# Altium schematic symbol library Cirk.SCHLIB: 2 symbols
Pins are listed as number, name and electrical type; pins without a type are passive.

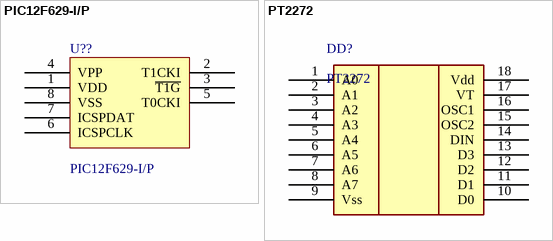
[diagram p0: symbols PIC12F629-I/P to PT2272]

## PIC12F629-I/P
designator U??
FLASH-Based 8-Bit CMOS Microcontroller, 8-Pin PDIP, Industrial Temperature; Note: Refer to data sheet (DS41190F) for details of supply voltage range under different conditions.; Published: 11-Oct-2004; LatestRevisionDate: 02-Dec-2009; LatestRevisionNote: Updated to datasheet revision revF, Sep-2009.; DatasheetVersion: revF, Sep-2009; PackageVersion: revBB, Aug-2009; PackageReference: PDIP300-P8; Publisher: Altium Limited; PackageDescription: 8-Lead Plastic Dual In-Line (P) - 300 mil Body [PDIP]; Supplier 1: Digi-Key; Supplier Part Number 1: PIC12F629-I/P-ND; Supplier 2: Farnell; Supplier Part Number 2: 9758992; Supplier 3: Farnell; Supplier Part Number 3: 1523920; Code_JEDEC: MS-001; ComponentLink1Description: Datasheet; ComponentLink1URL: http://ww1.microchip.com/downloads/en/DeviceDoc/41190F.pdf; ComponentLink2Description: Packaging Specification; ComponentLink2URL: http://www.microchip.com/stellent/groups/techpub_sg/documents/packagingspec/en012702.pdf; ComponentLink3Description: Microchip.com Home; ComponentLink3URL: http://www.microchip.com/
footprint PDIP300-P8 (DIP, 8-Leads, Row Spacing 7.62mm, Pitch 2.54mm, Body 9.5x6.6mm)
pins: 1 VDD (power), 2 T1CKI, 3 ~{T1G}, 4 VPP, 5 T0CKI, 6 ICSPCLK, 7 ICSPDAT, 8 VSS (power)

## PT2272
designator DD?
footprint DIP-18 (DIP, 18-Pin, Row Spacing 7.62 mm, Pitch 2.54 mm)
pins: 1 A0, 2 A1, 3 A2, 4 A3, 5 A4, 6 A5, 7 A6, 8 A7, 9 Vss, 10 D0, 11 D1, 12 D2, 13 D3, 14 DIN, 15 OSC2, 16 OSC1, 17 VT, 18 Vdd